# Altium schematic symbol library PBK-3-5.SchLib: 4 symbols
Pins are listed as number, name and electrical type; pins without a type are passive.

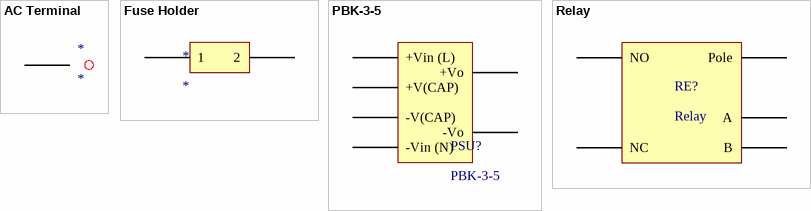
[diagram p0: symbols AC Terminal to Relay]

## AC Terminal
designator *
footprint AC Terminal
pins: 0

## Fuse Holder
designator *
footprint Fuse Holder (5mm x 20mm)
pins: 1, 2

## PBK-3-5
designator PSU?
120Vac to 5Vdc psu
footprint PBK-3-5 (120Vac to 5VDC)
pins: 1 -Vin (N), 3 +Vin (L), 5 +V(CAP), 7 -V(CAP), 10 -Vo, 12 +Vo

## Relay
designator RE?
footprint Relay
pins: 1 A, 2 B, 3 NC, 4 NO, 5 Pole